# EAGLE library part AMP-1241150-10 (library jt-con-tyco)
AMPMODU II 2.54mm SMT unshrouded 10-position
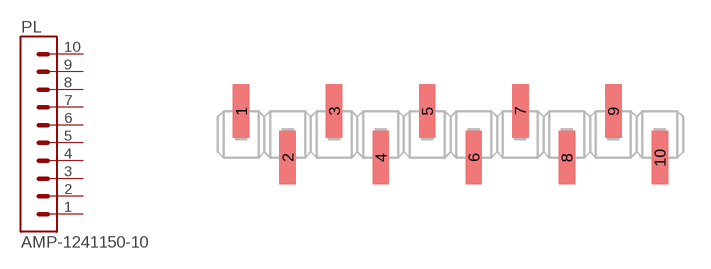
[diagram p4: symbol with the pads of AMP-1241150-10; footprint AMP-1241150-10]

Designator prefix PL

## AMP-1241150-10  [AMP-1241150-10]
1  1
2  2
3  3
4  4
5  5
6  6
7  7
8  8
9  9
10  10

## Footprint AMP-1241150-10 (pad centres in mm)
AMPMODU II 2.54mm SMT unshrouded 10-position
smd 0.9 x 2.9: 1 -11.43,1.27; 2 -8.89,-1.27; 3 -6.35,1.27; 4 -3.81,-1.27; 5 -1.27,1.27; 6 1.27,-1.27; 7 3.81,1.27; 8 6.35,-1.27; 9 8.89,1.27; 10 11.43,-1.27